# Altium schematic symbol library TPA2000D1.Schlib: 1 symbol
Pins are listed as number, name and electrical type; pins without a type are passive.

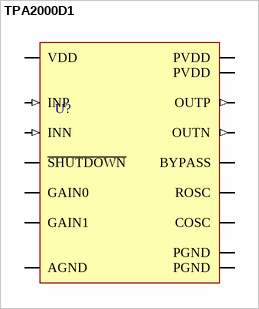
[diagram p0: symbol TPA2000D1]

## TPA2000D1
designator U?
2W MONO CLASS-D AUDIO POWER AMPLIFIER
pins: 1 INP (in), 2 INN (in), 3 ~{SHUTDOWN}, 4 GAIN0, 5 GAIN1, 6 PVDD (power), 7 OUTP (out), 8 PGND (power), 9 PGND (power), 10 OUTN (out), 11 PVDD (power), 12 VDD (power), 13 ROSC, 14 COSC, 15 AGND (power), 16 BYPASS